# EAGLE library part WE-D-SUB_THT_UNC4/40_210611023 (library Wurth_Signal & Communications_WE-D-SUB)
WE-D-SUB Filter Solder Pin Straight Characteristics Standard type filtered with 1000 pF High attenuation: max. ≥ 40 dB @ 180 MHz Choice of UNC 4/40 or through hole Rated voltage: 100 VDC Rated current @ 20 ºC: 5 A Withstand voltage: 250 VRMS Insulation resistance: min. 1000 MΩ Operating temperature: –55 ºC to +125 ºC Applications Filtering of interfaces External connection to -printer -sensor -display Device and Package Name Note: UNC 4/40 means Size UNC 4/40 <https://katalog.we-online.de/media/images/v2/o14707v209%20Family_D-SUB-Filter_mit_geradem_Loetstift.jpg> Details see: https://katalog.we-online.de/en/pbs/D-SUB-FILTER-STRAIGHT Updated by Ella Wu 2019-09-10 2019(C) Wurth Elektronik
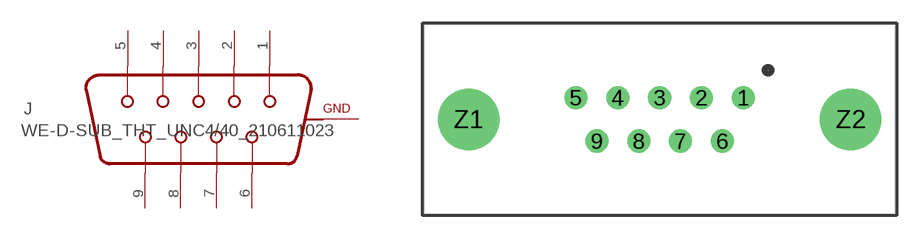
[diagram p22: symbol with the pads of WE-D-SUB_THT_UNC4/40_210611023; footprint WE-D-SUB_THT_UNC4/40_210611023]

Designator prefix J

## WE-D-SUB_THT_UNC4/40_210611023 (DATASHEET-URL: https://katalog.we-online.de/pbs/datasheet/210611023.pdf; MOUNT: THT; PART-NUMBER: 210611023; POLES: 9; TYPE: Female)  [WE-D-SUB_THT_UNC4/40_210611023]
1  5  pas
2  4  pas
3  3  pas
4  2  pas
5  1  pas
6  9  pas
7  8  pas
8  7  pas
9  6  pas
Z1  GND  pwr
Z2  GND  pwr

## Footprint WE-D-SUB_THT_UNC4/40_210611023 (pad centres in mm)
WE-D-SUB Filter Solder Pin Straight 9 Poles , Female UNC 4/40 means Size UNC 4/40
drill 1: 1 5.49,1.42; 2 2.74,1.42; 3 0,1.42; 4 -2.74,1.42; 5 -5.49,1.42; 6 4.11,-1.42; 7 1.37,-1.42; 8 -1.37,-1.42; 9 -4.11,-1.42
drill 3: Z1 -12.5,0; Z2 12.5,0